# Altium schematic symbol library SN65HVD23x.SchLib: 2 symbols
Pins are listed as number, name and electrical type; pins without a type are passive.

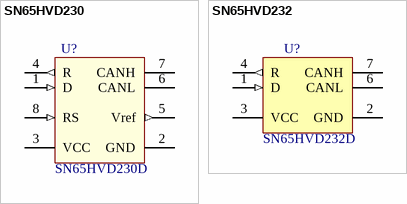
[diagram p0: symbols SN65HVD230 to SN65HVD232]

## SN65HVD230
designator U?  value SN65HVD230D  (hidden comment: SN65HVD230)
footprint D008_N (8-Pin Small Outline Integrated Circuit 1.27 mm Pitch, IPC Medium Density)
pins: 1 D (in), 2 GND (power), 3 VCC (power), 4 R (out), 5 Vref (out), 6 CANL, 7 CANH, 8 RS (in)

## SN65HVD232
designator U?  value SN65HVD232D  (hidden comment: SN65HVD232)
footprint D008_N (8-Pin Small Outline Integrated Circuit 1.27 mm Pitch, IPC Medium Density)
pins: 1 D (in), 2 GND (power), 3 VCC (power), 4 R (out), 6 CANL, 7 CANH